# Altium footprint library Connector_Dsub.PcbLib: 104 footprints (part 7 of 7)
Each footprint in its own frame and in the unit in brackets; x right, y up, seen from the top. Pads: shape width x height; smd on the part's side, far side on the other; paste and mask are expansions set on the pad; w line width, h text height; cw(c..) or ccw(c..) is an arc to the next point about the centre after c.
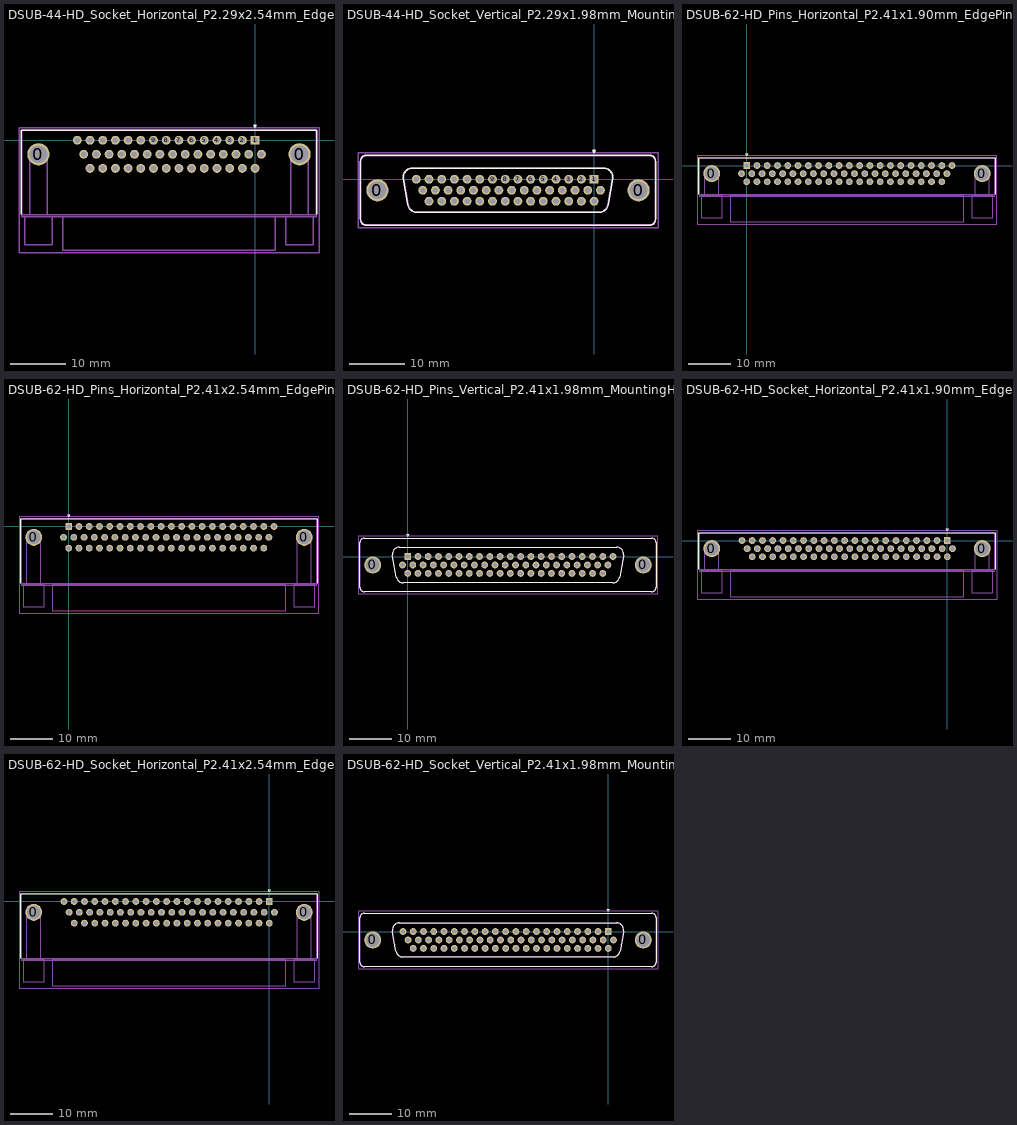
[diagram p6: the footprints below, top view; thin cyan lines are the x and y axes]

## DSUB-44-HD_Socket_Horizontal_P2.29x2.54mm_EdgePinOffset8.35mm_Housed_MountingHolesOffset10.89mm [mm]
pads (46):
  round 4 hole 3.2: 0(-39.075,-2.54) 0(8.025,-2.54)
  rect 1.6x1.6 hole 1: 1(0,0)
  round 1.6 hole 1: 2(-2.29,0) 3(-4.58,0) 4(-6.87,0) 5(-9.16,0) 6(-11.45,0) 7(-13.74,0) 8(-16.03,0) 9(-18.32,0) 10(-20.61,0) 11(-22.9,0) 12(-25.19,0) 13(-27.48,0) 14(-29.77,0) 15(-32.06,0) 16(1.145,-2.54) 17(-1.145,-2.54) 18(-3.435,-2.54) 19(-5.725,-2.54) 20(-8.015,-2.54) 21(-10.305,-2.54) 22(-12.595,-2.54) 23(-14.885,-2.54) 24(-17.175,-2.54) 25(-19.465,-2.54) 26(-21.755,-2.54) 27(-24.045,-2.54) 28(-26.335,-2.54) 29(-28.625,-2.54) 30(-30.915,-2.54) 31(0,-5.08) 32(-2.29,-5.08) 33(-4.58,-5.08) 34(-6.87,-5.08) 35(-9.16,-5.08) 36(-11.45,-5.08) 37(-13.74,-5.08) 38(-16.03,-5.08) 39(-18.32,-5.08) 40(-20.61,-5.08) 41(-22.9,-5.08) 42(-25.19,-5.08) 43(-27.48,-5.08) 44(-29.77,-5.08)
F.SilkS:
  lines w0.254: -42.135,-13.37 -42.135,1.83 11.085,1.83 11.085,-13.37 ; -0.25,2.724 0.25,2.724 0,2.291 -0.25,2.724
F.Fab:
  lines w0.254: -40.675,-13.43 -40.675,-2.54 cw(c-39.075,-2.54) -37.475,-2.54 -37.475,-13.43 ; 6.425,-13.43 6.425,-2.54 cw(c8.025,-2.54) 9.625,-2.54 9.625,-13.43 ; -42.075,-13.43 -42.075,1.77 11.025,1.77 11.025,-13.43 ; -42.075,-13.43 -42.075,-13.83 11.025,-13.83 11.025,-13.43 ; -42.075,-13.43 11.025,-13.43 ; -42.075,-13.43 11.025,-13.43 ; -41.575,-18.83 -41.575,-13.83 -36.575,-13.83 -36.575,-18.83 -41.575,-18.83 ; -34.675,-19.83 -34.675,-13.83 3.625,-13.83 3.625,-19.83 -34.675,-19.83 ; 5.525,-18.83 5.525,-13.83 10.525,-13.83 10.525,-18.83 5.525,-18.83
  text "'.Designator'" at -19.572,-17.67 h1
F.CrtYd:
  lines w0.254: -42.58,-20.33 -42.58,2.27 11.53,2.27 11.53,-20.33 -42.58,-20.33

## DSUB-44-HD_Socket_Vertical_P2.29x1.98mm_MountingHoles [mm]
pads (46):
  round 4 hole 3.2: 0(-39.075,-1.98) 0(8.025,-1.98)
  rect 1.6x1.6 hole 1: 1(0,0)
  round 1.6 hole 1: 2(-2.29,0) 3(-4.58,0) 4(-6.87,0) 5(-9.16,0) 6(-11.45,0) 7(-13.74,0) 8(-16.03,0) 9(-18.32,0) 10(-20.61,0) 11(-22.9,0) 12(-25.19,0) 13(-27.48,0) 14(-29.77,0) 15(-32.06,0) 16(1.145,-1.98) 17(-1.145,-1.98) 18(-3.435,-1.98) 19(-5.725,-1.98) 20(-8.015,-1.98) 21(-10.305,-1.98) 22(-12.595,-1.98) 23(-14.885,-1.98) 24(-17.175,-1.98) 25(-19.465,-1.98) 26(-21.755,-1.98) 27(-24.045,-1.98) 28(-26.335,-1.98) 29(-28.625,-1.98) 30(-30.915,-1.98) 31(0,-3.96) 32(-2.29,-3.96) 33(-4.58,-3.96) 34(-6.87,-3.96) 35(-9.16,-3.96) 36(-11.45,-3.96) 37(-13.74,-3.96) 38(-16.03,-3.96) 39(-18.32,-3.96) 40(-20.61,-3.96) 41(-22.9,-3.96) 42(-25.19,-3.96) 43(-27.48,-3.96) 44(-29.77,-3.96)
F.SilkS:
  lines w0.254: -42.135,-7.23 -42.135,3.27 cw(c-41.075,3.27) -41.075,4.33 10.025,4.33 cw(c10.025,3.27) 11.085,3.27 11.085,-7.23 cw(c10.025,-7.23) 10.025,-8.29 -41.075,-8.29 cw(c-41.075,-7.23) -42.135,-7.23 ; -34.391,0.082 -33.563,-4.618 ccw(c-31.928,-4.33) -31.928,-5.99 0.878,-5.99 ccw(c0.878,-4.33) 2.513,-4.618 3.341,0.082 ccw(c1.707,0.37) 1.707,2.03 -32.757,2.03 ccw(c-32.757,0.37) -34.391,0.082 ; -0.25,5.224 0.25,5.224 0,4.791 -0.25,5.224
F.Fab:
  lines w0.254: -42.075,-7.23 -42.075,3.27 cw(c-41.075,3.27) -41.075,4.27 10.025,4.27 cw(c10.025,3.27) 11.025,3.27 11.025,-7.23 cw(c10.025,-7.23) 10.025,-8.23 -41.075,-8.23 cw(c-41.075,-7.23) -42.075,-7.23 ; -34.344,0.092 -33.515,-4.608 ccw(c-31.939,-4.33) -31.939,-5.93 0.889,-5.93 ccw(c0.889,-4.33) 2.465,-4.608 3.294,0.092 ccw(c1.718,0.37) 1.718,1.97 -32.768,1.97 ccw(c-32.768,0.37) -34.344,0.092
  text "'.Designator'" at -19.572,-2.82 h1
F.CrtYd:
  lines w0.254: -42.58,-8.73 -42.58,4.77 11.53,4.77 11.53,-8.73 -42.58,-8.73

## DSUB-62-HD_Pins_Horizontal_P2.41x1.90mm_EdgePinOffset3.03mm_Housed_MountingHolesOffset4.94mm [mm]
pads (64):
  round 4 hole 3.2: 0(-8.205,-1.89) 0(55.295,-1.89)
  rect 1.6x1.6 hole 1: 1(0,0)
  round 1.6 hole 1: 2(2.41,0) 3(4.82,0) 4(7.23,0) 5(9.64,0) 6(12.05,0) 7(14.46,0) 8(16.87,0) 9(19.28,0) 10(21.69,0) 11(24.1,0) 12(26.51,0) 13(28.92,0) 14(31.33,0) 15(33.74,0) 16(36.15,0) 17(38.56,0) 18(40.97,0) 19(43.38,0) 20(45.79,0) 21(48.2,0) 22(-1.205,-1.9) 23(1.205,-1.9) 24(3.615,-1.9) 25(6.025,-1.9) 26(8.435,-1.9) 27(10.845,-1.9) 28(13.255,-1.9) 29(15.665,-1.9) 30(18.075,-1.9) 31(20.485,-1.9) 32(22.895,-1.9) 33(25.305,-1.9) 34(27.715,-1.9) 35(30.125,-1.9) 36(32.535,-1.9) 37(34.945,-1.9) 38(37.355,-1.9) 39(39.765,-1.9) 40(42.175,-1.9) 41(44.585,-1.9) 42(46.995,-1.9) 43(0,-3.8) 44(2.41,-3.8) 45(4.82,-3.8) 46(7.23,-3.8) 47(9.64,-3.8) 48(12.05,-3.8) 49(14.46,-3.8) 50(16.87,-3.8) 51(19.28,-3.8) 52(21.69,-3.8) 53(24.1,-3.8) 54(26.51,-3.8) 55(28.92,-3.8) 56(31.33,-3.8) 57(33.74,-3.8) 58(36.15,-3.8) 59(38.56,-3.8) 60(40.97,-3.8) 61(43.38,-3.8) 62(45.79,-3.8)
F.SilkS:
  lines w0.254: -11.215,-6.77 -11.215,1.83 58.305,1.83 58.305,-6.77 ; -0.25,2.724 0.25,2.724 0,2.291 -0.25,2.724
F.Fab:
  lines w0.254: -9.805,-6.83 -9.805,-1.89 cw(c-8.205,-1.89) -6.605,-1.89 -6.605,-6.83 ; 53.695,-6.83 53.695,-1.89 cw(c55.295,-1.89) 56.895,-1.89 56.895,-6.83 ; -11.155,-6.83 -11.155,1.77 58.245,1.77 58.245,-6.83 ; -11.155,-6.83 -11.155,-7.23 58.245,-7.23 58.245,-6.83 ; -11.155,-6.83 58.245,-6.83 ; -11.155,-6.83 58.245,-6.83 ; -10.705,-12.23 -10.705,-7.23 -5.705,-7.23 -5.705,-12.23 -10.705,-12.23 ; -3.855,-13.23 -3.855,-7.23 50.945,-7.23 50.945,-13.23 -3.855,-13.23 ; 52.795,-12.23 52.795,-7.23 57.795,-7.23 57.795,-12.23 52.795,-12.23
  text "'.Designator'" at 19.498,-11.07 h1
F.CrtYd:
  lines w0.254: -11.66,-13.73 -11.66,2.27 58.75,2.27 58.75,-13.73 -11.66,-13.73

## DSUB-62-HD_Pins_Horizontal_P2.41x2.54mm_EdgePinOffset8.35mm_Housed_MountingHolesOffset10.89mm [mm]
pads (64):
  round 4 hole 3.2: 0(-8.205,-2.54) 0(55.295,-2.54)
  rect 1.6x1.6 hole 1: 1(0,0)
  round 1.6 hole 1: 2(2.41,0) 3(4.82,0) 4(7.23,0) 5(9.64,0) 6(12.05,0) 7(14.46,0) 8(16.87,0) 9(19.28,0) 10(21.69,0) 11(24.1,0) 12(26.51,0) 13(28.92,0) 14(31.33,0) 15(33.74,0) 16(36.15,0) 17(38.56,0) 18(40.97,0) 19(43.38,0) 20(45.79,0) 21(48.2,0) 22(-1.205,-2.54) 23(1.205,-2.54) 24(3.615,-2.54) 25(6.025,-2.54) 26(8.435,-2.54) 27(10.845,-2.54) 28(13.255,-2.54) 29(15.665,-2.54) 30(18.075,-2.54) 31(20.485,-2.54) 32(22.895,-2.54) 33(25.305,-2.54) 34(27.715,-2.54) 35(30.125,-2.54) 36(32.535,-2.54) 37(34.945,-2.54) 38(37.355,-2.54) 39(39.765,-2.54) 40(42.175,-2.54) 41(44.585,-2.54) 42(46.995,-2.54) 43(0,-5.08) 44(2.41,-5.08) 45(4.82,-5.08) 46(7.23,-5.08) 47(9.64,-5.08) 48(12.05,-5.08) 49(14.46,-5.08) 50(16.87,-5.08) 51(19.28,-5.08) 52(21.69,-5.08) 53(24.1,-5.08) 54(26.51,-5.08) 55(28.92,-5.08) 56(31.33,-5.08) 57(33.74,-5.08) 58(36.15,-5.08) 59(38.56,-5.08) 60(40.97,-5.08) 61(43.38,-5.08) 62(45.79,-5.08)
F.SilkS:
  lines w0.254: -11.215,-13.37 -11.215,1.83 58.305,1.83 58.305,-13.37 ; -0.25,2.724 0.25,2.724 0,2.291 -0.25,2.724
F.Fab:
  lines w0.254: -9.805,-13.43 -9.805,-2.54 cw(c-8.205,-2.54) -6.605,-2.54 -6.605,-13.43 ; 53.695,-13.43 53.695,-2.54 cw(c55.295,-2.54) 56.895,-2.54 56.895,-13.43 ; -11.155,-13.43 -11.155,1.77 58.245,1.77 58.245,-13.43 ; -11.155,-13.43 -11.155,-13.83 58.245,-13.83 58.245,-13.43 ; -11.155,-13.43 58.245,-13.43 ; -11.155,-13.43 58.245,-13.43 ; -10.705,-18.83 -10.705,-13.83 -5.705,-13.83 -5.705,-18.83 -10.705,-18.83 ; -3.855,-19.83 -3.855,-13.83 50.945,-13.83 50.945,-19.83 -3.855,-19.83 ; 52.795,-18.83 52.795,-13.83 57.795,-13.83 57.795,-18.83 52.795,-18.83
  text "'.Designator'" at 19.498,-17.67 h1
F.CrtYd:
  lines w0.254: -11.66,-20.33 -11.66,2.27 58.75,2.27 58.75,-20.33 -11.66,-20.33

## DSUB-62-HD_Pins_Vertical_P2.41x1.98mm_MountingHoles [mm]
pads (64):
  round 4 hole 3.2: 0(-8.205,-1.98) 0(55.295,-1.98)
  rect 1.6x1.6 hole 1: 1(0,0)
  round 1.6 hole 1: 2(2.41,0) 3(4.82,0) 4(7.23,0) 5(9.64,0) 6(12.05,0) 7(14.46,0) 8(16.87,0) 9(19.28,0) 10(21.69,0) 11(24.1,0) 12(26.51,0) 13(28.92,0) 14(31.33,0) 15(33.74,0) 16(36.15,0) 17(38.56,0) 18(40.97,0) 19(43.38,0) 20(45.79,0) 21(48.2,0) 22(-1.205,-1.98) 23(1.205,-1.98) 24(3.615,-1.98) 25(6.025,-1.98) 26(8.435,-1.98) 27(10.845,-1.98) 28(13.255,-1.98) 29(15.665,-1.98) 30(18.075,-1.98) 31(20.485,-1.98) 32(22.895,-1.98) 33(25.305,-1.98) 34(27.715,-1.98) 35(30.125,-1.98) 36(32.535,-1.98) 37(34.945,-1.98) 38(37.355,-1.98) 39(39.765,-1.98) 40(42.175,-1.98) 41(44.585,-1.98) 42(46.995,-1.98) 43(0,-3.96) 44(2.41,-3.96) 45(4.82,-3.96) 46(7.23,-3.96) 47(9.64,-3.96) 48(12.05,-3.96) 49(14.46,-3.96) 50(16.87,-3.96) 51(19.28,-3.96) 52(21.69,-3.96) 53(24.1,-3.96) 54(26.51,-3.96) 55(28.92,-3.96) 56(31.33,-3.96) 57(33.74,-3.96) 58(36.15,-3.96) 59(38.56,-3.96) 60(40.97,-3.96) 61(43.38,-3.96) 62(45.79,-3.96)
F.SilkS:
  lines w0.254: -11.215,-7.23 -11.215,3.27 cw(c-10.155,3.27) -10.155,4.33 57.245,4.33 cw(c57.245,3.27) 58.305,3.27 58.305,-7.23 cw(c57.245,-7.23) 57.245,-8.29 -10.155,-8.29 cw(c-10.155,-7.23) -11.215,-7.23 ; -3.571,0.282 -2.672,-4.818 ccw(c-1.037,-4.53) -1.037,-6.19 48.127,-6.19 ccw(c48.127,-4.53) 49.762,-4.818 50.661,0.282 ccw(c49.027,0.57) 49.027,2.23 -1.937,2.23 ccw(c-1.937,0.57) -3.571,0.282 ; -0.25,5.224 0.25,5.224 0,4.791 -0.25,5.224
F.Fab:
  lines w0.254: -11.155,-7.23 -11.155,3.27 cw(c-10.155,3.27) -10.155,4.27 57.245,4.27 cw(c57.245,3.27) 58.245,3.27 58.245,-7.23 cw(c57.245,-7.23) 57.245,-8.23 -10.155,-8.23 cw(c-10.155,-7.23) -11.155,-7.23 ; -3.524,0.292 -2.625,-4.808 ccw(c-1.049,-4.53) -1.049,-6.13 48.139,-6.13 ccw(c48.139,-4.53) 49.715,-4.808 50.614,0.292 ccw(c49.038,0.57) 49.038,2.17 -1.948,2.17 ccw(c-1.948,0.57) -3.524,0.292
  text "'.Designator'" at 19.498,-2.82 h1
F.CrtYd:
  lines w0.254: -11.66,-8.73 -11.66,4.77 58.75,4.77 58.75,-8.73 -11.66,-8.73

## DSUB-62-HD_Socket_Horizontal_P2.41x1.90mm_EdgePinOffset3.03mm_Housed_MountingHolesOffset4.94mm [mm]
pads (64):
  round 4 hole 3.2: 0(-55.295,-1.89) 0(8.205,-1.89)
  rect 1.6x1.6 hole 1: 1(0,0)
  round 1.6 hole 1: 2(-2.41,0) 3(-4.82,0) 4(-7.23,0) 5(-9.64,0) 6(-12.05,0) 7(-14.46,0) 8(-16.87,0) 9(-19.28,0) 10(-21.69,0) 11(-24.1,0) 12(-26.51,0) 13(-28.92,0) 14(-31.33,0) 15(-33.74,0) 16(-36.15,0) 17(-38.56,0) 18(-40.97,0) 19(-43.38,0) 20(-45.79,0) 21(-48.2,0) 22(1.205,-1.9) 23(-1.205,-1.9) 24(-3.615,-1.9) 25(-6.025,-1.9) 26(-8.435,-1.9) 27(-10.845,-1.9) 28(-13.255,-1.9) 29(-15.665,-1.9) 30(-18.075,-1.9) 31(-20.485,-1.9) 32(-22.895,-1.9) 33(-25.305,-1.9) 34(-27.715,-1.9) 35(-30.125,-1.9) 36(-32.535,-1.9) 37(-34.945,-1.9) 38(-37.355,-1.9) 39(-39.765,-1.9) 40(-42.175,-1.9) 41(-44.585,-1.9) 42(-46.995,-1.9) 43(0,-3.8) 44(-2.41,-3.8) 45(-4.82,-3.8) 46(-7.23,-3.8) 47(-9.64,-3.8) 48(-12.05,-3.8) 49(-14.46,-3.8) 50(-16.87,-3.8) 51(-19.28,-3.8) 52(-21.69,-3.8) 53(-24.1,-3.8) 54(-26.51,-3.8) 55(-28.92,-3.8) 56(-31.33,-3.8) 57(-33.74,-3.8) 58(-36.15,-3.8) 59(-38.56,-3.8) 60(-40.97,-3.8) 61(-43.38,-3.8) 62(-45.79,-3.8)
F.SilkS:
  lines w0.254: -58.305,-6.77 -58.305,1.83 11.215,1.83 11.215,-6.77 ; -0.25,2.724 0.25,2.724 0,2.291 -0.25,2.724
F.Fab:
  lines w0.254: -56.895,-6.83 -56.895,-1.89 cw(c-55.295,-1.89) -53.695,-1.89 -53.695,-6.83 ; 6.605,-6.83 6.605,-1.89 cw(c8.205,-1.89) 9.805,-1.89 9.805,-6.83 ; -58.245,-6.83 -58.245,1.77 11.155,1.77 11.155,-6.83 ; -58.245,-6.83 -58.245,-7.23 11.155,-7.23 11.155,-6.83 ; -58.245,-6.83 11.155,-6.83 ; -58.245,-6.83 11.155,-6.83 ; -57.795,-12.23 -57.795,-7.23 -52.795,-7.23 -52.795,-12.23 -57.795,-12.23 ; -50.945,-13.23 -50.945,-7.23 3.855,-7.23 3.855,-13.23 -50.945,-13.23 ; 5.705,-12.23 5.705,-7.23 10.705,-7.23 10.705,-12.23 5.705,-12.23
  text "'.Designator'" at -27.592,-11.07 h1
F.CrtYd:
  lines w0.254: -58.75,-13.73 -58.75,2.27 11.66,2.27 11.66,-13.73 -58.75,-13.73

## DSUB-62-HD_Socket_Horizontal_P2.41x2.54mm_EdgePinOffset8.35mm_Housed_MountingHolesOffset10.89mm [mm]
pads (64):
  round 4 hole 3.2: 0(-55.295,-2.54) 0(8.205,-2.54)
  rect 1.6x1.6 hole 1: 1(0,0)
  round 1.6 hole 1: 2(-2.41,0) 3(-4.82,0) 4(-7.23,0) 5(-9.64,0) 6(-12.05,0) 7(-14.46,0) 8(-16.87,0) 9(-19.28,0) 10(-21.69,0) 11(-24.1,0) 12(-26.51,0) 13(-28.92,0) 14(-31.33,0) 15(-33.74,0) 16(-36.15,0) 17(-38.56,0) 18(-40.97,0) 19(-43.38,0) 20(-45.79,0) 21(-48.2,0) 22(1.205,-2.54) 23(-1.205,-2.54) 24(-3.615,-2.54) 25(-6.025,-2.54) 26(-8.435,-2.54) 27(-10.845,-2.54) 28(-13.255,-2.54) 29(-15.665,-2.54) 30(-18.075,-2.54) 31(-20.485,-2.54) 32(-22.895,-2.54) 33(-25.305,-2.54) 34(-27.715,-2.54) 35(-30.125,-2.54) 36(-32.535,-2.54) 37(-34.945,-2.54) 38(-37.355,-2.54) 39(-39.765,-2.54) 40(-42.175,-2.54) 41(-44.585,-2.54) 42(-46.995,-2.54) 43(0,-5.08) 44(-2.41,-5.08) 45(-4.82,-5.08) 46(-7.23,-5.08) 47(-9.64,-5.08) 48(-12.05,-5.08) 49(-14.46,-5.08) 50(-16.87,-5.08) 51(-19.28,-5.08) 52(-21.69,-5.08) 53(-24.1,-5.08) 54(-26.51,-5.08) 55(-28.92,-5.08) 56(-31.33,-5.08) 57(-33.74,-5.08) 58(-36.15,-5.08) 59(-38.56,-5.08) 60(-40.97,-5.08) 61(-43.38,-5.08) 62(-45.79,-5.08)
F.SilkS:
  lines w0.254: -58.305,-13.37 -58.305,1.83 11.215,1.83 11.215,-13.37 ; -0.25,2.724 0.25,2.724 0,2.291 -0.25,2.724
F.Fab:
  lines w0.254: -56.895,-13.43 -56.895,-2.54 cw(c-55.295,-2.54) -53.695,-2.54 -53.695,-13.43 ; 6.605,-13.43 6.605,-2.54 cw(c8.205,-2.54) 9.805,-2.54 9.805,-13.43 ; -58.245,-13.43 -58.245,1.77 11.155,1.77 11.155,-13.43 ; -58.245,-13.43 -58.245,-13.83 11.155,-13.83 11.155,-13.43 ; -58.245,-13.43 11.155,-13.43 ; -58.245,-13.43 11.155,-13.43 ; -57.795,-18.83 -57.795,-13.83 -52.795,-13.83 -52.795,-18.83 -57.795,-18.83 ; -50.945,-19.83 -50.945,-13.83 3.855,-13.83 3.855,-19.83 -50.945,-19.83 ; 5.705,-18.83 5.705,-13.83 10.705,-13.83 10.705,-18.83 5.705,-18.83
  text "'.Designator'" at -27.592,-17.67 h1
F.CrtYd:
  lines w0.254: -58.75,-20.33 -58.75,2.27 11.66,2.27 11.66,-20.33 -58.75,-20.33

## DSUB-62-HD_Socket_Vertical_P2.41x1.98mm_MountingHoles [mm]
pads (64):
  round 4 hole 3.2: 0(-55.295,-1.98) 0(8.205,-1.98)
  rect 1.6x1.6 hole 1: 1(0,0)
  round 1.6 hole 1: 2(-2.41,0) 3(-4.82,0) 4(-7.23,0) 5(-9.64,0) 6(-12.05,0) 7(-14.46,0) 8(-16.87,0) 9(-19.28,0) 10(-21.69,0) 11(-24.1,0) 12(-26.51,0) 13(-28.92,0) 14(-31.33,0) 15(-33.74,0) 16(-36.15,0) 17(-38.56,0) 18(-40.97,0) 19(-43.38,0) 20(-45.79,0) 21(-48.2,0) 22(1.205,-1.98) 23(-1.205,-1.98) 24(-3.615,-1.98) 25(-6.025,-1.98) 26(-8.435,-1.98) 27(-10.845,-1.98) 28(-13.255,-1.98) 29(-15.665,-1.98) 30(-18.075,-1.98) 31(-20.485,-1.98) 32(-22.895,-1.98) 33(-25.305,-1.98) 34(-27.715,-1.98) 35(-30.125,-1.98) 36(-32.535,-1.98) 37(-34.945,-1.98) 38(-37.355,-1.98) 39(-39.765,-1.98) 40(-42.175,-1.98) 41(-44.585,-1.98) 42(-46.995,-1.98) 43(0,-3.96) 44(-2.41,-3.96) 45(-4.82,-3.96) 46(-7.23,-3.96) 47(-9.64,-3.96) 48(-12.05,-3.96) 49(-14.46,-3.96) 50(-16.87,-3.96) 51(-19.28,-3.96) 52(-21.69,-3.96) 53(-24.1,-3.96) 54(-26.51,-3.96) 55(-28.92,-3.96) 56(-31.33,-3.96) 57(-33.74,-3.96) 58(-36.15,-3.96) 59(-38.56,-3.96) 60(-40.97,-3.96) 61(-43.38,-3.96) 62(-45.79,-3.96)
F.SilkS:
  lines w0.254: -58.305,-7.23 -58.305,3.27 cw(c-57.245,3.27) -57.245,4.33 10.155,4.33 cw(c10.155,3.27) 11.215,3.27 11.215,-7.23 cw(c10.155,-7.23) 10.155,-8.29 -57.245,-8.29 cw(c-57.245,-7.23) -58.305,-7.23 ; -50.661,0.082 -49.833,-4.618 ccw(c-48.198,-4.33) -48.198,-5.99 1.108,-5.99 ccw(c1.108,-4.33) 2.743,-4.618 3.571,0.082 ccw(c1.937,0.37) 1.937,2.03 -49.027,2.03 ccw(c-49.027,0.37) -50.661,0.082 ; -0.25,5.224 0.25,5.224 0,4.791 -0.25,5.224
F.Fab:
  lines w0.254: -58.245,-7.23 -58.245,3.27 cw(c-57.245,3.27) -57.245,4.27 10.155,4.27 cw(c10.155,3.27) 11.155,3.27 11.155,-7.23 cw(c10.155,-7.23) 10.155,-8.23 -57.245,-8.23 cw(c-57.245,-7.23) -58.245,-7.23 ; -50.614,0.092 -49.785,-4.608 ccw(c-48.209,-4.33) -48.209,-5.93 1.119,-5.93 ccw(c1.119,-4.33) 2.695,-4.608 3.524,0.092 ccw(c1.948,0.37) 1.948,1.97 -49.038,1.97 ccw(c-49.038,0.37) -50.614,0.092
  text "'.Designator'" at -27.592,-2.82 h1
F.CrtYd:
  lines w0.254: -58.75,-8.73 -58.75,4.77 11.66,4.77 11.66,-8.73 -58.75,-8.73